# EAGLE library part OPA569 (library SmartMDC)
Burr Brown products from Texas Instruments Rail-to-Rail I/O, 2A POWER AMPLIFIER
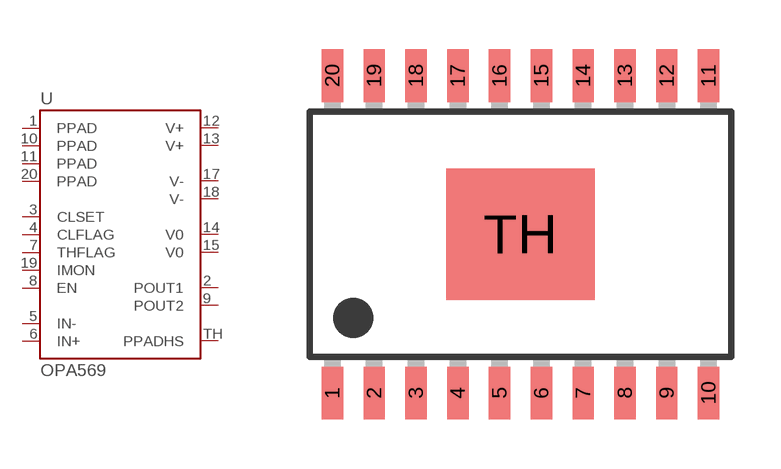
[diagram p5: symbol with the pads of SO-20; footprint SO-20]

Designator prefix U

## OPA569  [SO-20]
1  PPAD
2  POUT1
3  CLSET
4  CLFLAG
5  IN-
6  IN+
7  THFLAG
8  EN
9  POUT2
10  PPAD
11  PPAD
12  V+
13  V+
14  V0
15  V0
17  V-
18  V-
19  IMON
20  PPAD
TH  PPADHS

## Footprint SO-20 (pad centres in mm)
smd 0.65 x 1.6: 1 -5.715,-4.826; 2 -4.445,-4.826; 3 -3.175,-4.826; 4 -1.905,-4.826; 5 -0.635,-4.826; 6 0.635,-4.826; 7 1.905,-4.826; 8 3.175,-4.826; 9 4.445,-4.826; 10 5.715,-4.826; 11 5.715,4.826; 12 4.445,4.826; 13 3.175,4.826; 14 1.905,4.826; 15 0.635,4.826; 16 -0.635,4.826; 17 -1.905,4.826; 18 -3.175,4.826; 19 -4.445,4.826; 20 -5.715,4.826
smd 4.5 x 4: TH 0,0